# EAGLE library part CM1 (library raspberry_pi)
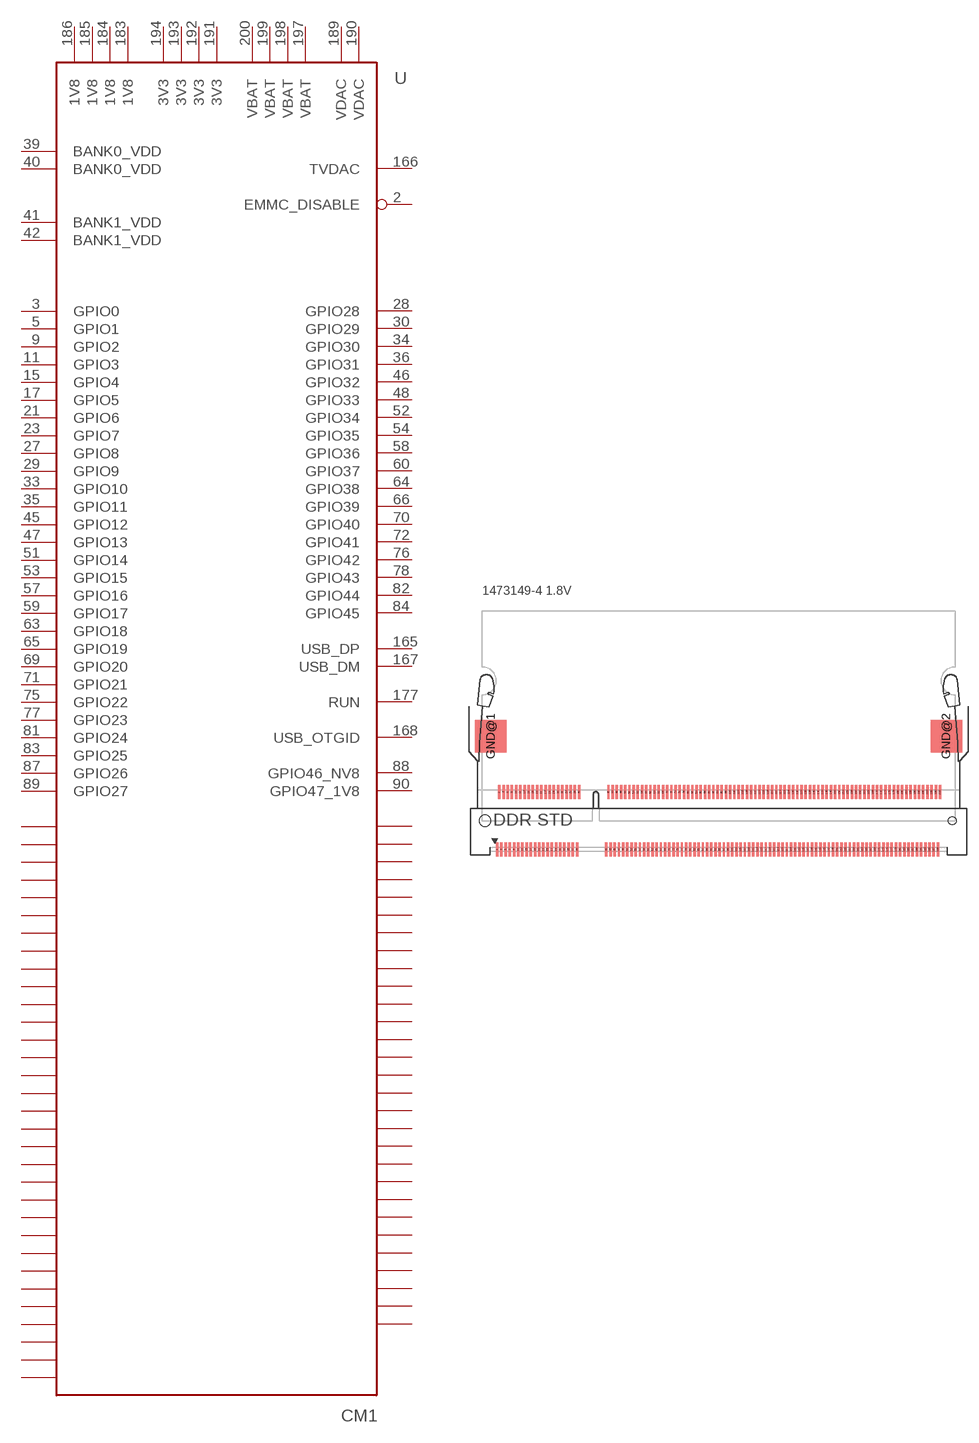
[diagram p4: symbol with the pads of CM1; footprint CM1]

Designator prefix -

## CM1  [CM1]
1  GND  pwr
2  EMMC_DISABLE
3  GPIO0
5  GPIO1
7  GND  pwr
8  GND  pwr
9  GPIO2
11  GPIO3
13  GND  pwr
14  GND  pwr
15  GPIO4
17  GPIO5
19  GND  pwr
20  GND  pwr
21  GPIO6
23  GPIO7
25  GND  pwr
26  GND  pwr
27  GPIO8
28  GPIO28
29  GPIO9
30  GPIO29
31  GND  pwr
32  GND  pwr
33  GPIO10
34  GPIO30
35  GPIO11
36  GPIO31
37  GND  pwr
38  GND  pwr
39  BANK0_VDD
40  BANK0_VDD
41  BANK1_VDD
42  BANK1_VDD
43  GND  pwr
44  GND  pwr
45  GPIO12
46  GPIO32
47  GPIO13
48  GPIO33
49  GND  pwr
50  GND  pwr
51  GPIO14
52  GPIO34
53  GPIO15
54  GPIO35
55  GND  pwr
56  GND  pwr
57  GPIO16
58  GPIO36
59  GPIO17
60  GPIO37
61  GND  pwr
62  GND  pwr
63  GPIO18
64  GPIO38
65  GPIO19
66  GPIO39
67  GND  pwr
68  GND  pwr
69  GPIO20
70  GPIO40
71  GPIO21
72  GPIO41
73  GND  pwr
74  GND  pwr
75  GPIO22
76  GPIO42
77  GPIO23
78  GPIO43
79  GND  pwr
80  GND  pwr
81  GPIO24
82  GPIO44
83  GPIO25
84  GPIO45
85  GND  pwr
86  GND  pwr
87  GPIO26
88  GPIO46_NV8
89  GPIO27
90  GPIO47_1V8
91  GND  pwr
92  GND  pwr
97  GND  pwr
98  GND  pwr
103  GND  pwr
104  GND  pwr
109  GND  pwr
110  GND  pwr
115  GND  pwr
116  GND  pwr
121  GND  pwr
122  GND  pwr
127  GND  pwr
133  GND  pwr
134  GND  pwr
139  GND  pwr
140  GND  pwr
145  GND  pwr
146  GND  pwr
151  GND  pwr
152  GND  pwr
157  GND  pwr
163  GND  pwr
164  GND  pwr
165  USB_DP
166  TVDAC
167  USB_DM
168  USB_OTGID
169  GND  pwr
170  GND  pwr
177  RUN
181  GND  pwr
182  GND  pwr
183  1V8
184  1V8
185  1V8
186  1V8
187  GND  pwr
188  GND  pwr
189  VDAC
190  VDAC
191  3V3
192  3V3
193  3V3
194  3V3
195  GND  pwr
196  GND  pwr
197  VBAT
198  VBAT
199  VBAT
200  VBAT

## Footprint CM1 (pad centres in mm)
smd 0.35 x 2: 1 2.15,-4.1; 2 2.45,4.1; 3 2.75,-4.1; 4 3.05,4.1; 5 3.35,-4.1; 6 3.65,4.1; 7 3.95,-4.1; 8 4.25,4.1; 9 4.55,-4.1; 10 4.85,4.1; 11 5.15,-4.1; 12 5.45,4.1; 13 5.75,-4.1; 14 6.05,4.1; 15 6.35,-4.1; 16 6.65,4.1; 17 6.95,-4.1; 18 7.25,4.1; 19 7.55,-4.1; 20 7.85,4.1; 21 8.15,-4.1; 22 8.45,4.1; 23 8.75,-4.1; 24 9.05,4.1; 25 9.35,-4.1; 26 9.65,4.1; 27 9.95,-4.1; 28 10.25,4.1; 29 10.55,-4.1; 30 10.85,4.1; 31 11.15,-4.1; 32 11.45,4.1; 33 11.75,-4.1; 34 12.05,4.1; 35 12.35,-4.1; 36 12.65,4.1; 37 12.95,-4.1; 38 13.25,4.1; 39 13.55,-4.1; 40 13.85,4.1; 41 17.75,-4.1; 42 18.05,4.1; 43 18.35,-4.1; 44 18.65,4.1; 45 18.95,-4.1; 46 19.25,4.1; 47 19.55,-4.1; 48 19.85,4.1; 49 20.15,-4.1; 50 20.45,4.1; 51 20.75,-4.1; 52 21.05,4.1; 53 21.35,-4.1; 54 21.65,4.1; 55 21.95,-4.1; 56 22.25,4.1; 57 22.55,-4.1; 58 22.85,4.1; 59 23.15,-4.1; 60 23.45,4.1; 61 23.75,-4.1; 62 24.05,4.1; 63 24.35,-4.1; 64 24.65,4.1; 65 24.95,-4.1; 66 25.25,4.1; 67 25.55,-4.1; 68 25.85,4.1; 69 26.15,-4.1; 70 26.45,4.1; 71 26.75,-4.1; 72 27.05,4.1; 73 27.35,-4.1; 74 27.65,4.1; 75 27.95,-4.1; 76 28.25,4.1; 77 28.55,-4.1; 78 28.85,4.1; 79 29.15,-4.1; 80 29.45,4.1; 81 29.75,-4.1; 82 30.05,4.1; 83 30.35,-4.1; 84 30.65,4.1; 85 30.95,-4.1; 86 31.25,4.1; 87 31.55,-4.1; 88 31.85,4.1; 89 32.15,-4.1; 90 32.45,4.1; 91 32.75,-4.1; 92 33.05,4.1; 93 33.35,-4.1; 94 33.65,4.1; 95 33.95,-4.1; 96 34.25,4.1; 97 34.55,-4.1; 98 34.85,4.1; 99 35.15,-4.1; 100 35.45,4.1; 101 35.75,-4.1; 102 36.05,4.1; 103 36.35,-4.1; 104 36.65,4.1; 105 36.95,-4.1; 106 37.25,4.1; 107 37.55,-4.1; 108 37.85,4.1; 109 38.15,-4.1; 110 38.45,4.1; 111 38.75,-4.1; 112 39.05,4.1; 113 39.35,-4.1; 114 39.65,4.1; 115 39.95,-4.1; 116 40.25,4.1; 117 40.55,-4.1; 118 40.85,4.1; 119 41.15,-4.1; 120 41.45,4.1; 121 41.75,-4.1; 122 42.05,4.1; 123 42.35,-4.1; 124 42.65,4.1; 125 42.95,-4.1; 126 43.25,4.1; 127 43.55,-4.1; 128 43.85,4.1; 129 44.15,-4.1; 130 44.45,4.1; 131 44.75,-4.1; 132 45.05,4.1; 133 45.35,-4.1; 134 45.65,4.1; 135 45.95,-4.1; 136 46.25,4.1; 137 46.55,-4.1; 138 46.85,4.1; 139 47.15,-4.1; 140 47.45,4.1; 141 47.75,-4.1; 142 48.05,4.1; 143 48.35,-4.1; 144 48.65,4.1; 145 48.95,-4.1; 146 49.25,4.1; 147 49.55,-4.1; 148 49.85,4.1; 149 50.15,-4.1; 150 50.45,4.1; 151 50.75,-4.1; 152 51.05,4.1; 153 51.35,-4.1; 154 51.65,4.1; 155 51.95,-4.1; 156 52.25,4.1; 157 52.55,-4.1; 158 52.85,4.1; 159 53.15,-4.1; 160 53.45,4.1; 161 53.75,-4.1; 162 54.05,4.1; 163 54.35,-4.1; 164 54.65,4.1; 165 54.95,-4.1; 166 55.25,4.1; 167 55.55,-4.1; 168 55.85,4.1; 169 56.15,-4.1; 170 56.45,4.1; 171 56.75,-4.1; 172 57.05,4.1; 173 57.35,-4.1; 174 57.65,4.1; 175 57.95,-4.1; 176 58.25,4.1; 177 58.55,-4.1; 178 58.85,4.1; 179 59.15,-4.1; 180 59.45,4.1; 181 59.75,-4.1; 182 60.05,4.1; 183 60.35,-4.1; 184 60.65,4.1; 185 60.95,-4.1; 186 61.25,4.1; 187 61.55,-4.1; 188 61.85,4.1; 189 62.15,-4.1; 190 62.45,4.1; 191 62.75,-4.1; 192 63.05,4.1; 193 63.35,-4.1; 194 63.65,4.1; 195 63.95,-4.1; 196 64.25,4.1; 197 64.55,-4.1; 198 64.85,4.1; 199 65.15,-4.1; 200 65.45,4.1
smd 4.5 x 4.6: GND@1 1.25,12.1; GND@2 66.35,12.1
hole 1.6 at 0.4,0
hole 1.1 at 67.2,0